# Altium schematic symbol library Traco.SCHLIB: 2 symbols
Pins are listed as number, name and electrical type; pins without a type are passive.

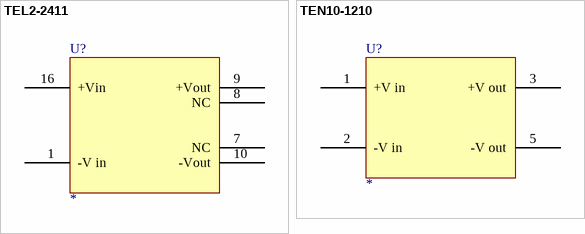
[diagram p0: symbols TEL2-2411 to TEN10-1210]

## TEL2-2411
designator U?
footprint TEL2
pins: 1 -V in, 7 NC, 8 NC, 9 +Vout, 10 -Vout, 16 +Vin

## TEN10-1210
designator U?
footprint TEN10S
pins: 1 +V in, 2 -V in, 3 +V out, 5 -V out